# EAGLE library part LIF-MD6000-6MG81I (library library)
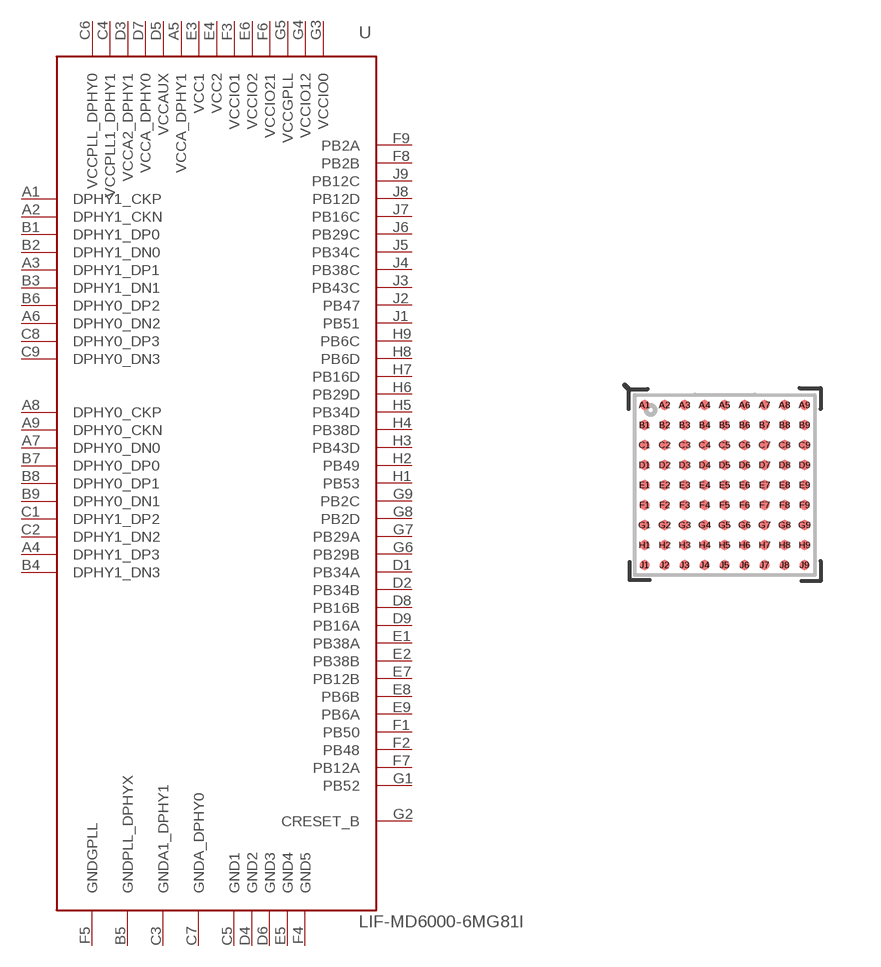
[diagram p3: symbol with the pads of CSFBGA81; footprint CSFBGA81]

Designator prefix U

## LIF-MD6000-6MG81I  [CSFBGA81]
A1  DPHY1_CKP
A2  DPHY1_CKN
A3  DPHY1_DP1
A4  DPHY1_DP3
A5  VCCA_DPHY1
A6  DPHY0_DN2
A7  DPHY0_DN0
A8  DPHY0_CKP
A9  DPHY0_CKN
B1  DPHY1_DP0
B2  DPHY1_DN0
B3  DPHY1_DN1
B4  DPHY1_DN3
B5  GNDPLL_DPHYX
B6  DPHY0_DP2
B7  DPHY0_DP0
B8  DPHY0_DP1
B9  DPHY0_DN1
C1  DPHY1_DP2
C2  DPHY1_DN2
C3  GNDA1_DPHY1
C4  VCCPLL1_DPHY1
C5  GND1
C6  VCCPLL_DPHY0
C7  GNDA_DPHY0
C8  DPHY0_DP3
C9  DPHY0_DN3
D1  PB34A
D2  PB34B
D3  VCCA2_DPHY1
D4  GND2
D5  VCCAUX
D6  GND3
D7  VCCA_DPHY0
D8  PB16B
D9  PB16A
E1  PB38A
E2  PB38B
E3  VCC1
E4  VCC2
E5  GND4
E6  VCCIO2
E7  PB12B
E8  PB6B
E9  PB6A
F1  PB50
F2  PB48
F3  VCCIO1
F4  GND5
F5  GNDGPLL
F6  VCCIO21
F7  PB12A
F8  PB2B
F9  PB2A
G1  PB52
G2  CRESET_B
G3  VCCIO0
G4  VCCIO12
G5  VCCGPLL
G6  PB29B
G7  PB29A
G8  PB2D
G9  PB2C
H1  PB53
H2  PB49
H3  PB43D
H4  PB38D
H5  PB34D
H6  PB29D
H7  PB16D
H8  PB6D
H9  PB6C
J1  PB51
J2  PB47
J3  PB43C
J4  PB38C
J5  PB34C
J6  PB29C
J7  PB16C
J8  PB12D
J9  PB12C

## Footprint CSFBGA81 (pad centres in mm)
smd 0.25 x 0.25: A1 -2,2; A2 -1.5,2; A3 -1,2; A4 -0.5,2; A5 0,2; A6 0.5,2; A7 1,2; A8 1.5,2; A9 2,2; B1 -2,1.5; B2 -1.5,1.5; B3 -1,1.5; B4 -0.5,1.5; B5 0,1.5; B6 0.5,1.5; B7 1,1.5; B8 1.5,1.5; B9 2,1.5; C1 -2,1; C2 -1.5,1; C3 -1,1; C4 -0.5,1; C5 0,1; C6 0.5,1; C7 1,1; C8 1.5,1; C9 2,1; D1 -2,0.5; D2 -1.5,0.5; D3 -1,0.5; D4 -0.5,0.5; D5 0,0.5; D6 0.5,0.5; D7 1,0.5; D8 1.5,0.5; D9 2,0.5; E1 -2,0; E2 -1.5,0; E3 -1,0; E4 -0.5,0; E5 0,0; E6 0.5,0; E7 1,0; E8 1.5,0; E9 2,0; F1 -2,-0.5; F2 -1.5,-0.5; F3 -1,-0.5; F4 -0.5,-0.5; F5 0,-0.5; F6 0.5,-0.5; F7 1,-0.5; F8 1.5,-0.5; F9 2,-0.5; G1 -2,-1; G2 -1.5,-1; G3 -1,-1; G4 -0.5,-1; G5 0,-1; G6 0.5,-1; G7 1,-1; G8 1.5,-1; G9 2,-1; H1 -2,-1.5; H2 -1.5,-1.5; H3 -1,-1.5; H4 -0.5,-1.5; H5 0,-1.5; H6 0.5,-1.5; H7 1,-1.5; H8 1.5,-1.5; H9 2,-1.5; J1 -2,-2; J2 -1.5,-2; J3 -1,-2; J4 -0.5,-2; J5 0,-2; J6 0.5,-2; J7 1,-2; J8 1.5,-2; J9 2,-2